# Altium schematic symbol library ST Microelectronics STM32 G0.SchLib: 57 symbols (part 2 of 2)
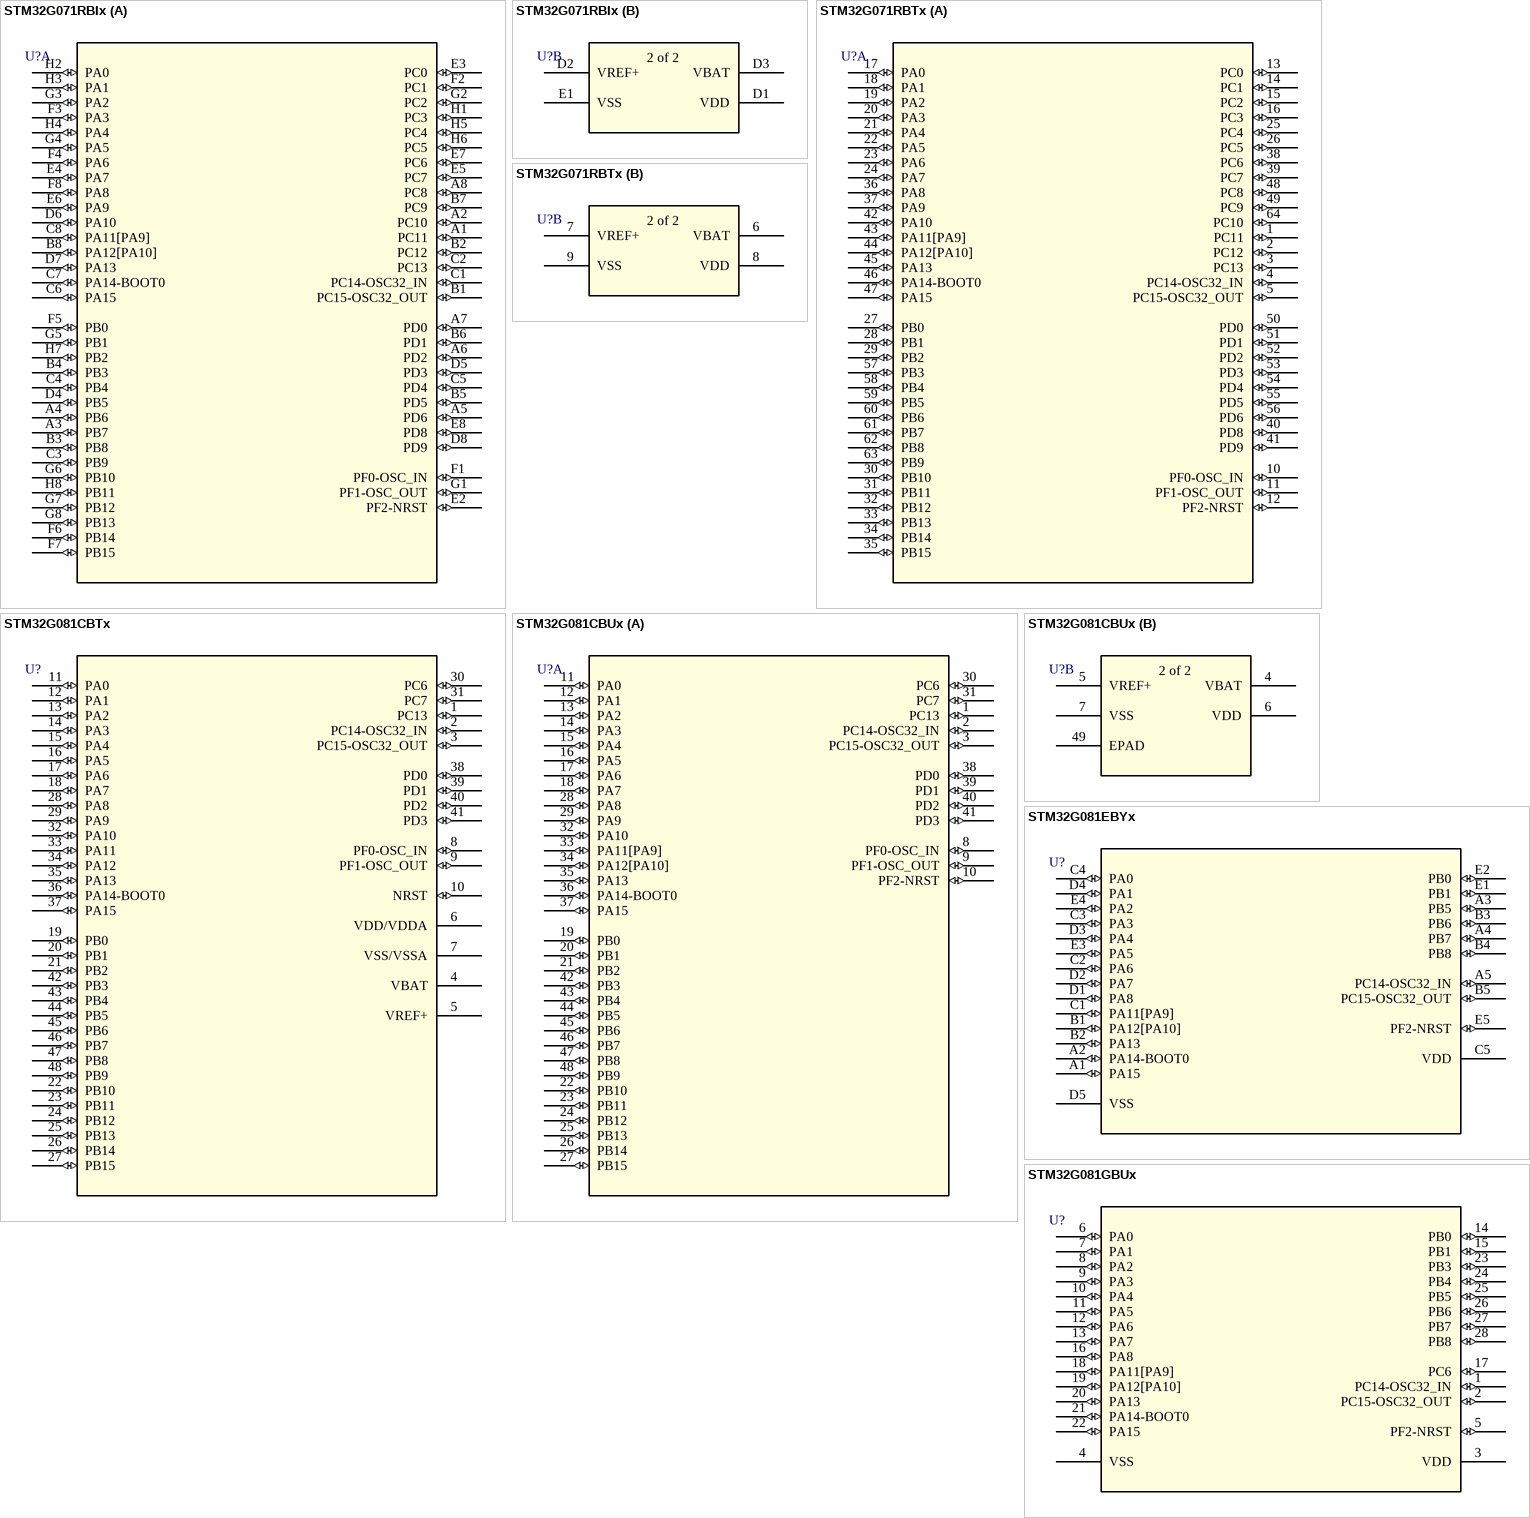
[diagram p9: symbols STM32G071RBIx to STM32G081GBUx]

## STM32G071RBIx
designator U?
The STM32G071x8/xB mainstream microcontrollers are based on high-performance Arm® Cortex®-M0+ 32-bit RISC core operating at up to 64 MHz frequency. / 128 Kbytes of Flash program memory and 36 Kbytes of SRAM. With 64pin UFBGA 5x5x0.5 package; Manufacturer_Part_Number: stm32g0_ufbga64_t1; Built_By: EMA_Jessica; Vendor: STMicroelectronics; Copyright: Copyright (C) 2016 Accelerated Designs. All rights reserved; RefDes: RefDes; Type: DEV; Value: Value
footprint UFBGA64-5x5mm
part A pins: A1 PC11 (io), A2 PC10 (io), A3 PB7 (io), A4 PB6 (io), A5 PD6 (io), A6 PD2 (io), A7 PD0 (io), A8 PC8 (io), B1 PC15-OSC32_OUT (io), B2 PC12 (io), B3 PB8 (io), B4 PB3 (io), B5 PD5 (io), B6 PD1 (io), B7 PC9 (io), B8 PA12[PA10] (io), C1 PC14-OSC32_IN (io), C2 PC13 (io), C3 PB9 (io), C4 PB4 (io), C5 PD4 (io), C6 PA15 (io), C7 PA14-BOOT0 (io), C8 PA11[PA9] (io), D4 PB5 (io), D5 PD3 (io), D6 PA10 (io), D7 PA13 (io), D8 PD9 (io), E2 PF2-NRST (io), E3 PC0 (io), E4 PA7 (io), E5 PC7 (io), E6 PA9 (io), E7 PC6 (io), E8 PD8 (io), F1 PF0-OSC_IN (io), F2 PC1 (io), F3 PA3 (io), F4 PA6 (io), F5 PB0 (io), F6 PB14 (io), F7 PB15 (io), F8 PA8 (io), G1 PF1-OSC_OUT (io), G2 PC2 (io), G3 PA2 (io), G4 PA5 (io), G5 PB1 (io), G6 PB10 (io), G7 PB12 (io), G8 PB13 (io), H1 PC3 (io), H2 PA0 (io), H3 PA1 (io), H4 PA4 (io), H5 PC4 (io), H6 PC5 (io), H7 PB2 (io), H8 PB11 (io)
part B pins: D1 VDD (power), D2 VREF+ (power), D3 VBAT (power), E1 VSS (power)
part B text: 2 of 2

## STM32G071RBTx
designator U?
The STM32G071x8/xB mainstream microcontrollers are based on high-performance Arm® Cortex®-M0+ 32-bit RISC core operating at up to 64 MHz frequency. / 128 Kbytes of Flash program memory and 36 Kbytes of SRAM. With 64pin LQFP 10x10x1.4 package; Manufacturer_Part_Number: stm32g0_lqfp64_t1; Built_By: EMA_Jessica; Vendor: STMicroelectronics; Copyright: Copyright (C) 2016 Accelerated Designs. All rights reserved; RefDes: RefDes; Type: DEV; Value: Value
footprint LQFP-64
part A pins: 1 PC11 (io), 2 PC12 (io), 3 PC13 (io), 4 PC14-OSC32_IN (io), 5 PC15-OSC32_OUT (io), 10 PF0-OSC_IN (io), 11 PF1-OSC_OUT (io), 12 PF2-NRST (io), 13 PC0 (io), 14 PC1 (io), 15 PC2 (io), 16 PC3 (io), 17 PA0 (io), 18 PA1 (io), 19 PA2 (io), 20 PA3 (io), 21 PA4 (io), 22 PA5 (io), 23 PA6 (io), 24 PA7 (io), 25 PC4 (io), 26 PC5 (io), 27 PB0 (io), 28 PB1 (io), 29 PB2 (io), 30 PB10 (io), 31 PB11 (io), 32 PB12 (io), 33 PB13 (io), 34 PB14 (io), 35 PB15 (io), 36 PA8 (io), 37 PA9 (io), 38 PC6 (io), 39 PC7 (io), 40 PD8 (io), 41 PD9 (io), 42 PA10 (io), 43 PA11[PA9] (io), 44 PA12[PA10] (io), 45 PA13 (io), 46 PA14-BOOT0 (io), 47 PA15 (io), 48 PC8 (io), 49 PC9 (io), 50 PD0 (io), 51 PD1 (io), 52 PD2 (io), 53 PD3 (io), 54 PD4 (io), 55 PD5 (io), 56 PD6 (io), 57 PB3 (io), 58 PB4 (io), 59 PB5 (io), 60 PB6 (io), 61 PB7 (io), 62 PB8 (io), 63 PB9 (io), 64 PC10 (io)
part B pins: 6 VBAT (power), 7 VREF+ (power), 8 VDD (power), 9 VSS (power)
part B text: 2 of 2

## STM32G081CBTx
designator U?
The STM32G081xB mainstream microcontrollers are based on high-performance Arm® Cortex®-M0+ 32-bit RISC core operating at up to 64 MHz frequency. / 128 Kbytes of Flash program memory and 36 Kbytes of SRAM. With 48pin LQFP 7x7x1.4 package; Manufacturer_Part_Number: stm32g0_lqfp48_t2; Vendor: STMicroelectronics; Copyright: Copyright (C) 2018 Accelerated Designs. All rights reserved; RefDes: RefDes; Type: DEV; Value: Value
footprint LQFP48
pins: 1 PC13 (io), 2 PC14-OSC32_IN (io), 3 PC15-OSC32_OUT (io), 4 VBAT (power), 5 VREF+ (power), 6 VDD/VDDA (power), 7 VSS/VSSA (power), 8 PF0-OSC_IN (io), 9 PF1-OSC_OUT (io), 10 NRST (io), 11 PA0 (io), 12 PA1 (io), 13 PA2 (io), 14 PA3 (io), 15 PA4 (io), 16 PA5 (io), 17 PA6 (io), 18 PA7 (io), 19 PB0 (io), 20 PB1 (io), 21 PB2 (io), 22 PB10 (io), 23 PB11 (io), 24 PB12 (io), 25 PB13 (io), 26 PB14 (io), 27 PB15 (io), 28 PA8 (io), 29 PA9 (io), 30 PC6 (io), 31 PC7 (io), 32 PA10 (io), 33 PA11 (io), 34 PA12 (io), 35 PA13 (io), 36 PA14-BOOT0 (io), 37 PA15 (io), 38 PD0 (io), 39 PD1 (io), 40 PD2 (io), 41 PD3 (io), 42 PB3 (io), 43 PB4 (io), 44 PB5 (io), 45 PB6 (io), 46 PB7 (io), 47 PB8 (io), 48 PB9 (io)

## STM32G081CBUx
designator U?
The STM32G081xB mainstream microcontrollers are based on high-performance Arm® Cortex®-M0+ 32-bit RISC core operating at up to 64 MHz frequency. / 128 Kbytes of Flash program memory and 36 Kbytes of SRAM. With 48pin UFQFPN 7x7x0.55 package; Manufacturer_Part_Number: stm32g0_ufqfpn48_t1; Built_By: EMA_Jessica; Vendor: STMicroelectronics; Copyright: Copyright (C) 2016 Accelerated Designs. All rights reserved; RefDes: RefDes; Type: DEV; Value: Value
footprint UFQFPN48-7x7mm
part A pins: 1 PC13 (io), 2 PC14-OSC32_IN (io), 3 PC15-OSC32_OUT (io), 8 PF0-OSC_IN (io), 9 PF1-OSC_OUT (io), 10 PF2-NRST (io), 11 PA0 (io), 12 PA1 (io), 13 PA2 (io), 14 PA3 (io), 15 PA4 (io), 16 PA5 (io), 17 PA6 (io), 18 PA7 (io), 19 PB0 (io), 20 PB1 (io), 21 PB2 (io), 22 PB10 (io), 23 PB11 (io), 24 PB12 (io), 25 PB13 (io), 26 PB14 (io), 27 PB15 (io), 28 PA8 (io), 29 PA9 (io), 30 PC6 (io), 31 PC7 (io), 32 PA10 (io), 33 PA11[PA9] (io), 34 PA12[PA10] (io), 35 PA13 (io), 36 PA14-BOOT0 (io), 37 PA15 (io), 38 PD0 (io), 39 PD1 (io), 40 PD2 (io), 41 PD3 (io), 42 PB3 (io), 43 PB4 (io), 44 PB5 (io), 45 PB6 (io), 46 PB7 (io), 47 PB8 (io), 48 PB9 (io)
part B pins: 4 VBAT (power), 5 VREF+ (power), 6 VDD (power), 7 VSS (power), 49 EPAD
part B text: 2 of 2

## STM32G081EBYx
designator U?
The STM32G081xB mainstream microcontrollers are based on high-performance Arm® Cortex®-M0+ 32-bit RISC core operating at up to 64 MHz frequency. / 128 Kbytes of Flash program memory and 36 Kbytes of SRAM. With 25pin WLCSP  2.3x2.5 package; Manufacturer_Part_Number: stm32g0_wlcsp25_t1; Built_By: EMA_Jessica; Vendor: STMicroelectronics; Copyright: Copyright (C) 2016 Accelerated Designs. All rights reserved; RefDes: RefDes; Type: DEV; Value: Value
footprint WLCSP25
pins: A1 PA15 (io), A2 PA14-BOOT0 (io), A3 PB5 (io), A4 PB7 (io), A5 PC14-OSC32_IN (io), B1 PA12[PA10] (io), B2 PA13 (io), B3 PB6 (io), B4 PB8 (io), B5 PC15-OSC32_OUT (io), C1 PA11[PA9] (io), C2 PA6 (io), C3 PA3 (io), C4 PA0 (io), C5 VDD (power), D1 PA8 (io), D2 PA7 (io), D3 PA4 (io), D4 PA1 (io), D5 VSS (power), E1 PB1 (io), E2 PB0 (io), E3 PA5 (io), E4 PA2 (io), E5 PF2-NRST (io)

## STM32G081GBUx
designator U?
The STM32G081xB mainstream microcontrollers are based on high-performance Arm® Cortex®-M0+ 32-bit RISC core operating at up to 64 MHz frequency. / 128 Kbytes of Flash program memory and 36 Kbytes of SRAM. With 28pin UFQFPN 4x4x0.55 package; Manufacturer_Part_Number: stm32g0_ufqfpn28_t1; Built_By: EMA_Jessica; Vendor: STMicroelectronics; Copyright: Copyright (C) 2016 Accelerated Designs. All rights reserved; RefDes: RefDes; Type: DEV; Value: Value
footprint UFQFPN-28
pins: 1 PC14-OSC32_IN (io), 2 PC15-OSC32_OUT (io), 3 VDD (power), 4 VSS (power), 5 PF2-NRST (io), 6 PA0 (io), 7 PA1 (io), 8 PA2 (io), 9 PA3 (io), 10 PA4 (io), 11 PA5 (io), 12 PA6 (io), 13 PA7 (io), 14 PB0 (io), 15 PB1 (io), 16 PA8 (io), 17 PC6 (io), 18 PA11[PA9] (io), 19 PA12[PA10] (io), 20 PA13 (io), 21 PA14-BOOT0 (io), 22 PA15 (io), 23 PB3 (io), 24 PB4 (io), 25 PB5 (io), 26 PB6 (io), 27 PB7 (io), 28 PB8 (io)

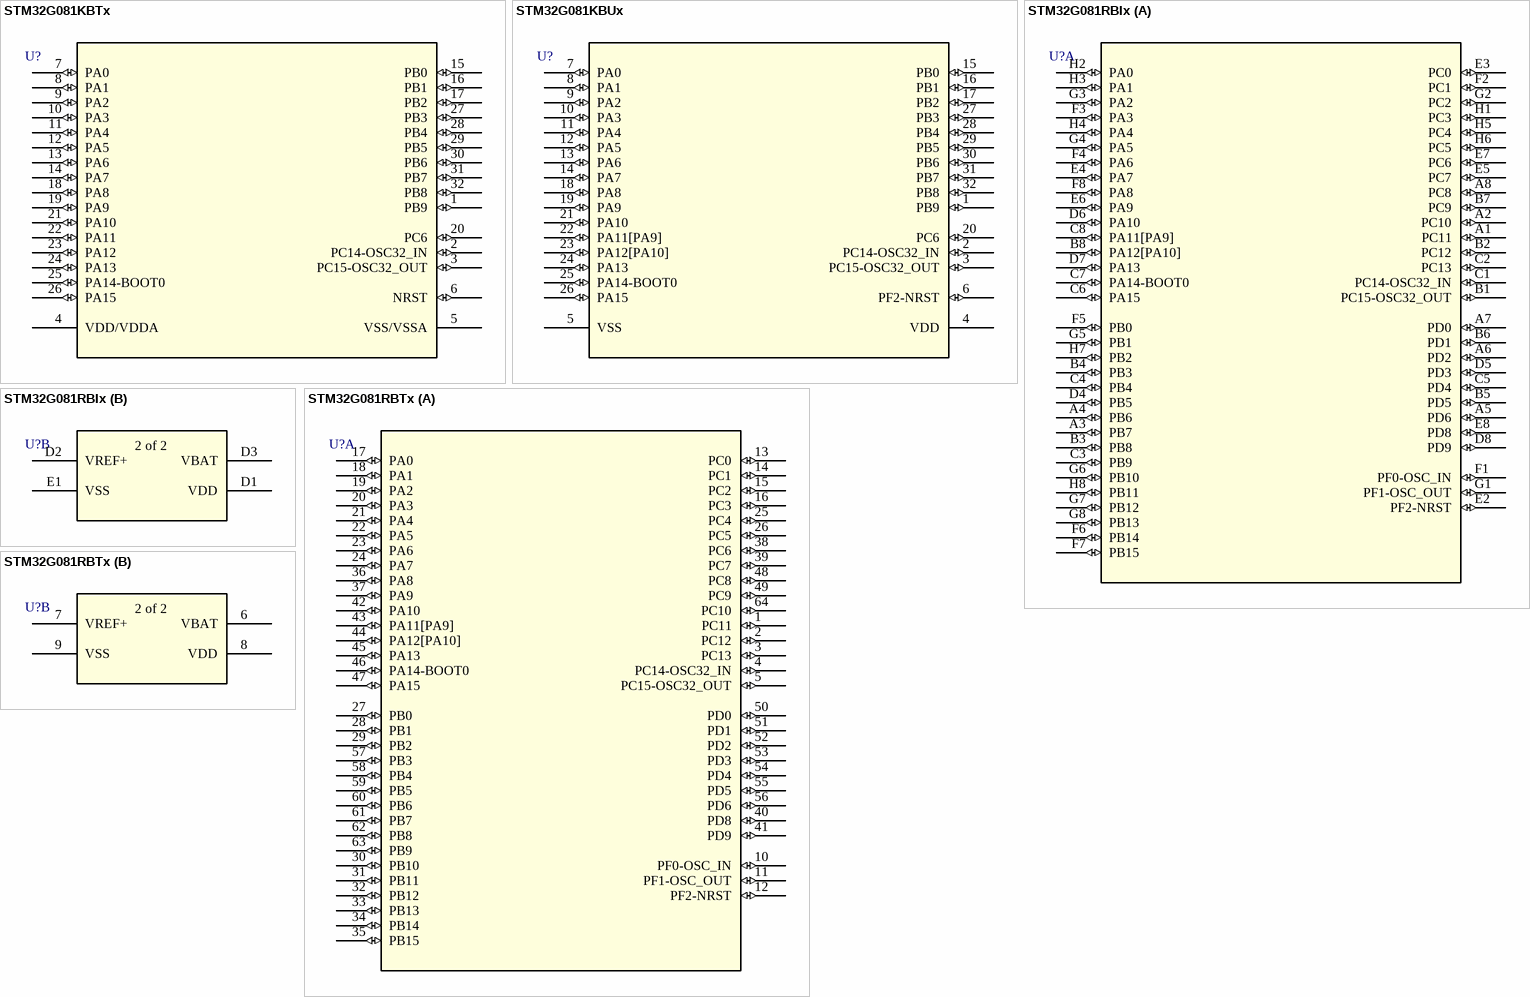
[diagram p8: symbols STM32G081KBTx to STM32G081RBTx]

## STM32G081KBTx
designator U?
The STM32G081xB mainstream microcontrollers are based on high-performance Arm® Cortex®-M0+ 32-bit RISC core operating at up to 64 MHz frequency. / 128 Kbytes of Flash program memory and 36 Kbytes of SRAM. With 32pin LQFP 7x7x1.4 package; Manufacturer_Part_Number: STM32G0_LQFP32_T2; Vendor: STMicroelectronics; Copyright: Copyright (C) 2018 Accelerated Designs. All rights reserved; RefDes: RefDes; Type: DEV; Value: Value
footprint LQFP-32
pins: 1 PB9 (io), 2 PC14-OSC32_IN (io), 3 PC15-OSC32_OUT (io), 4 VDD/VDDA (power), 5 VSS/VSSA (power), 6 NRST (io), 7 PA0 (io), 8 PA1 (io), 9 PA2 (io), 10 PA3 (io), 11 PA4 (io), 12 PA5 (io), 13 PA6 (io), 14 PA7 (io), 15 PB0 (io), 16 PB1 (io), 17 PB2 (io), 18 PA8 (io), 19 PA9 (io), 20 PC6 (io), 21 PA10 (io), 22 PA11 (io), 23 PA12 (io), 24 PA13 (io), 25 PA14-BOOT0 (io), 26 PA15 (io), 27 PB3 (io), 28 PB4 (io), 29 PB5 (io), 30 PB6 (io), 31 PB7 (io), 32 PB8 (io)

## STM32G081KBUx
designator U?
The STM32G081xB mainstream microcontrollers are based on high-performance Arm® Cortex®-M0+ 32-bit RISC core operating at up to 64 MHz frequency. / 128 Kbytes of Flash program memory and 36 Kbytes of SRAM. With 32pin UFQFPN  5x5x0.55  package; Manufacturer_Part_Number: stm32g0_ufqfpn32_t1; Built_By: EMA_Jessica; Vendor: STMicroelectronics; Copyright: Copyright (C) 2016 Accelerated Designs. All rights reserved; RefDes: RefDes; Type: DEV; Value: Value
footprint UFQFPN-32
pins: 1 PB9 (io), 2 PC14-OSC32_IN (io), 3 PC15-OSC32_OUT (io), 4 VDD (power), 5 VSS (power), 6 PF2-NRST (io), 7 PA0 (io), 8 PA1 (io), 9 PA2 (io), 10 PA3 (io), 11 PA4 (io), 12 PA5 (io), 13 PA6 (io), 14 PA7 (io), 15 PB0 (io), 16 PB1 (io), 17 PB2 (io), 18 PA8 (io), 19 PA9 (io), 20 PC6 (io), 21 PA10 (io), 22 PA11[PA9] (io), 23 PA12[PA10] (io), 24 PA13 (io), 25 PA14-BOOT0 (io), 26 PA15 (io), 27 PB3 (io), 28 PB4 (io), 29 PB5 (io), 30 PB6 (io), 31 PB7 (io), 32 PB8 (io)

## STM32G081RBIx
designator U?
The STM32G081xB mainstream microcontrollers are based on high-performance Arm® Cortex®-M0+ 32-bit RISC core operating at up to 64 MHz frequency. / 128 Kbytes of Flash program memory and 36 Kbytes of SRAM. With 64pin UFBGA 5x5x0.5 package; Manufacturer_Part_Number: stm32g0_ufbga64_t1; Built_By: EMA_Jessica; Vendor: STMicroelectronics; Copyright: Copyright (C) 2016 Accelerated Designs. All rights reserved; RefDes: RefDes; Type: DEV; Value: Value
footprint UFBGA64-5x5mm
part A pins: A1 PC11 (io), A2 PC10 (io), A3 PB7 (io), A4 PB6 (io), A5 PD6 (io), A6 PD2 (io), A7 PD0 (io), A8 PC8 (io), B1 PC15-OSC32_OUT (io), B2 PC12 (io), B3 PB8 (io), B4 PB3 (io), B5 PD5 (io), B6 PD1 (io), B7 PC9 (io), B8 PA12[PA10] (io), C1 PC14-OSC32_IN (io), C2 PC13 (io), C3 PB9 (io), C4 PB4 (io), C5 PD4 (io), C6 PA15 (io), C7 PA14-BOOT0 (io), C8 PA11[PA9] (io), D4 PB5 (io), D5 PD3 (io), D6 PA10 (io), D7 PA13 (io), D8 PD9 (io), E2 PF2-NRST (io), E3 PC0 (io), E4 PA7 (io), E5 PC7 (io), E6 PA9 (io), E7 PC6 (io), E8 PD8 (io), F1 PF0-OSC_IN (io), F2 PC1 (io), F3 PA3 (io), F4 PA6 (io), F5 PB0 (io), F6 PB14 (io), F7 PB15 (io), F8 PA8 (io), G1 PF1-OSC_OUT (io), G2 PC2 (io), G3 PA2 (io), G4 PA5 (io), G5 PB1 (io), G6 PB10 (io), G7 PB12 (io), G8 PB13 (io), H1 PC3 (io), H2 PA0 (io), H3 PA1 (io), H4 PA4 (io), H5 PC4 (io), H6 PC5 (io), H7 PB2 (io), H8 PB11 (io)
part B pins: D1 VDD (power), D2 VREF+ (power), D3 VBAT (power), E1 VSS (power)
part B text: 2 of 2

## STM32G081RBTx
designator U?
The STM32G081xB mainstream microcontrollers are based on high-performance Arm® Cortex®-M0+ 32-bit RISC core operating at up to 64 MHz frequency. / 128 Kbytes of Flash program memory and 36 Kbytes of SRAM. With 64pin LQFP 10x10x1.4 package; Manufacturer_Part_Number: stm32g0_lqfp64_t1; Built_By: EMA_Jessica; Vendor: STMicroelectronics; Copyright: Copyright (C) 2016 Accelerated Designs. All rights reserved; RefDes: RefDes; Type: DEV; Value: Value
footprint LQFP-64
part A pins: 1 PC11 (io), 2 PC12 (io), 3 PC13 (io), 4 PC14-OSC32_IN (io), 5 PC15-OSC32_OUT (io), 10 PF0-OSC_IN (io), 11 PF1-OSC_OUT (io), 12 PF2-NRST (io), 13 PC0 (io), 14 PC1 (io), 15 PC2 (io), 16 PC3 (io), 17 PA0 (io), 18 PA1 (io), 19 PA2 (io), 20 PA3 (io), 21 PA4 (io), 22 PA5 (io), 23 PA6 (io), 24 PA7 (io), 25 PC4 (io), 26 PC5 (io), 27 PB0 (io), 28 PB1 (io), 29 PB2 (io), 30 PB10 (io), 31 PB11 (io), 32 PB12 (io), 33 PB13 (io), 34 PB14 (io), 35 PB15 (io), 36 PA8 (io), 37 PA9 (io), 38 PC6 (io), 39 PC7 (io), 40 PD8 (io), 41 PD9 (io), 42 PA10 (io), 43 PA11[PA9] (io), 44 PA12[PA10] (io), 45 PA13 (io), 46 PA14-BOOT0 (io), 47 PA15 (io), 48 PC8 (io), 49 PC9 (io), 50 PD0 (io), 51 PD1 (io), 52 PD2 (io), 53 PD3 (io), 54 PD4 (io), 55 PD5 (io), 56 PD6 (io), 57 PB3 (io), 58 PB4 (io), 59 PB5 (io), 60 PB6 (io), 61 PB7 (io), 62 PB8 (io), 63 PB9 (io), 64 PC10 (io)
part B pins: 6 VBAT (power), 7 VREF+ (power), 8 VDD (power), 9 VSS (power)
part B text: 2 of 2